# EAGLE library part ESP32-DEVKIT-V1 (library ESP32-DEVKIT-V1)
Check availability <https://pricing.snapeda.com/parts/ESP32-DEVKIT-V1/Do%20it/view-part?ref=eda>
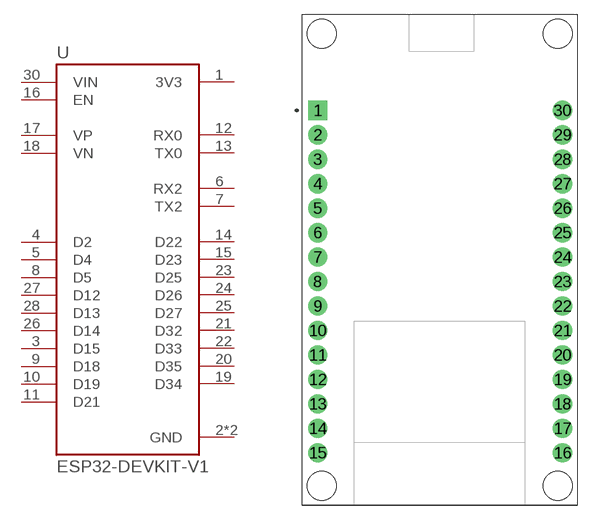
[diagram p0: symbol with the pads of MODULE_ESP32_DEVKIT_V1; footprint MODULE_ESP32_DEVKIT_V1]

Designator prefix U

## ESP32-DEVKIT-V1 (Availability: Not in stock; Check_prices: https://www.snapeda.com/parts/ESP32-DEVKIT-V1/Do+it/view-part/?ref=eda; Description: Dual core, Wi-Fi: 2.4 GHz up to 150 Mbits/s,BLE (Bluetooth Low Energy) and legacy Bluetooth, 32 bits, Up to 240 MHz; MF: Do it; MP: ESP32-DEVKIT-V1; Package: None; Price: None; SnapEDA_Link: https://www.snapeda.com/parts/ESP32-DEVKIT-V1/Do+it/view-part/?ref=snap)  [MODULE_ESP32_DEVKIT_V1]
1  3V3  out
2  GND  pwr
3  D15
4  D2
5  D4
6  RX2  in
7  TX2  out
8  D5
9  D18
10  D19
11  D21
12  RX0  in
13  TX0  out
14  D22
15  D23
16  EN  in
17  VP
18  VN
19  D34
20  D35
21  D32
22  D33
23  D25
24  D26
25  D27
26  D14
27  D12
28  D13
29  GND  pwr
30  VIN  in

## Footprint MODULE_ESP32_DEVKIT_V1 (pad centres in mm)
drill 1.02 pad 2 square: 1 -12.7,15.515
drill 1.02 pad 2: 2 -12.7,12.975; 3 -12.7,10.435; 4 -12.7,7.895; 5 -12.7,5.355; 6 -12.7,2.815; 7 -12.7,0.275; 8 -12.7,-2.265; 9 -12.7,-4.805; 10 -12.7,-7.345; 11 -12.7,-9.885; 12 -12.7,-12.425; 13 -12.7,-14.965; 14 -12.7,-17.505; 15 -12.7,-20.045; 16 12.7,-20.045; 17 12.7,-17.505; 18 12.7,-14.965; 19 12.7,-12.425; 20 12.7,-9.885; 21 12.7,-7.345; 22 12.7,-4.805; 23 12.7,-2.265; 24 12.7,0.275; 25 12.7,2.815; 26 12.7,5.355; 27 12.7,7.895; 28 12.7,10.435; 29 12.7,12.975; 30 12.7,15.515
hole 3 at -12.28,-23.475
hole 3 at 12.23,-23.475
hole 3 at 12.23,23.475
hole 3 at -12.28,23.475